# EAGLE library part PAM8403-AMP-BOARD (library wz)
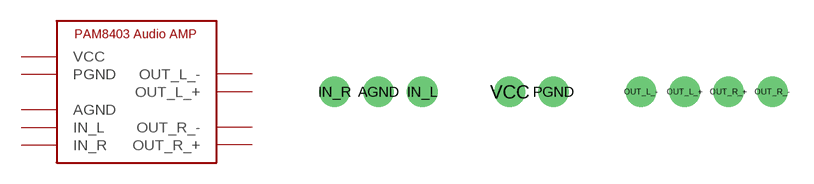
[diagram p2: symbol with the pads of PAM8403-AMP-BOARD; footprint PAM8403-AMP-BOARD]

Designator prefix -

## PAM8403-AMP-BOARD  [PAM8403-AMP-BOARD]
AGND  AGND  pas
IN_L  IN_L  in
IN_R  IN_R  in
OUT_L_+  OUT_L_+  out
OUT_L_-  OUT_L_-  out
OUT_R_+  OUT_R_+  out
OUT_R_-  OUT_R_-  out
PGND  PGND  pwr
VCC  VCC  pwr

## Footprint PAM8403-AMP-BOARD (pad centres in mm)
drill 1.016 pad 1.778: AGND 3.81,-1.27; IN_L 6.35,-1.27; IN_R 1.27,-1.27; OUT_L_+ 21.59,-1.27; OUT_L_- 19.05,-1.27; OUT_R_+ 24.13,-1.27; OUT_R_- 26.67,-1.27; PGND 13.97,-1.27; VCC 11.43,-1.27